# Altium schematic symbol library DS01C-254-S-03BE.SchLib: 1 symbol
Pins are listed as number, name and electrical type; pins without a type are passive.

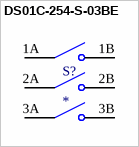
[diagram p0: symbol DS01C-254-S-03BE]

## DS01C-254-S-03BE
designator S?
MP: DS01C-254-S-03BE; Package: None; Price: None; Availability: Unavailable; Value: *
footprint SW_DS01C-254-S-03BE
pins: 1A COM1, 1B NO1, 2A COM2, 2B NO2, 3A COM3, 3B NO3